# EAGLE library part SD (library rac)
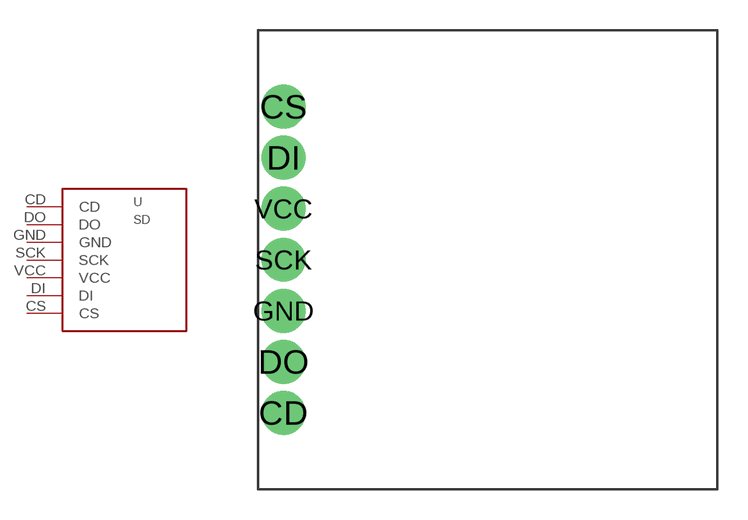
[diagram p3: symbol with the pads of SD_BR; footprint SD_BR]

Designator prefix -

## SD'A'  [SD_BR]
CD  CD
CS  CS
DI  DI
DO  DO
GND  GND
SCK  SCK
VCC  VCC

## Footprint SD_BR (pad centres in mm)
drill 1.2 pad 2.184: CD -5.08,-5.08; CS -5.08,10.16; DI -5.08,7.62; DO -5.08,-2.54; GND -5.08,0; SCK -5.08,2.54; VCC -5.08,5.08